# Altium footprint library 封装.PcbLib: 33 footprints (part 3 of 3)
Each footprint in its own frame and in the unit in brackets; x right, y up, seen from the top. Pads: shape width x height; smd on the part's side, far side on the other; paste and mask are expansions set on the pad; w line width, h text height; cw(c..) or ccw(c..) is an arc to the next point about the centre after c.
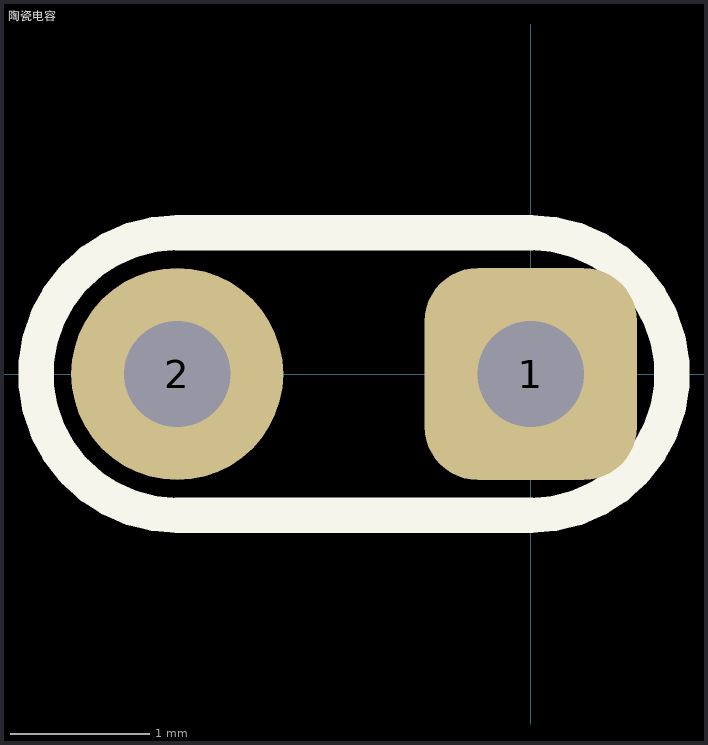
[diagram p2: the footprint, top view; thin cyan lines are the x and y axes]

## 陶瓷电容 [mil]
pads (2):
  rrect50% 60x60 hole 30: 1(0,0)
  round 60 hole 30: 2(-100,0)
Top Overlay:
  lines w10: -100,-40 cw(c-100,0) -100,40 0,40 cw(c0,0) 0,-40 -100,-40
3D body "User Library-Capacitor ceramico 0_2in pitch.STEP": height 216.53, standoff -131.14, extent -158,-49.43 58.56,49